# EAGLE library part 4052 (library jhbruhn-ic)
8-channel ANALOG MULTIPLEXER
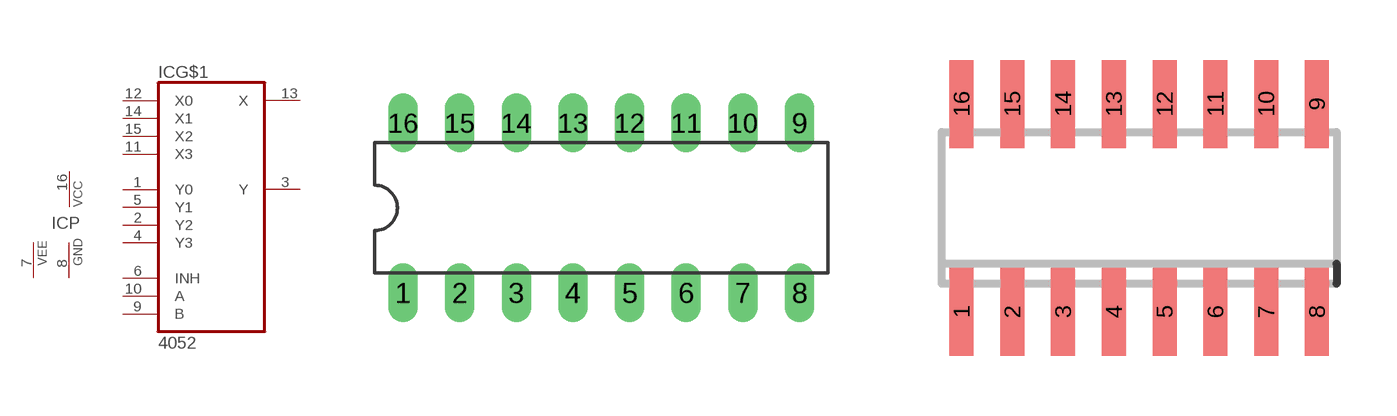
[diagram p2: symbol with the pads of DIL16; footprints DIL16, SOIC16N]

Designator prefix IC; gates P=PWR+VEE G$1=4052

## 4052N  [DIL16]
1  G$1:Y0
2  G$1:Y2
3  G$1:Y
4  G$1:Y3
5  G$1:Y1
6  G$1:INH  in
7  P:VEE  pwr
8  P:GND  pwr
9  G$1:B  in
10  G$1:A  in
11  G$1:X3
12  G$1:X0
13  G$1:X
14  G$1:X1
15  G$1:X2
16  P:VCC  pwr

## 4052D  [SOIC16N]
Pads as for DIL16

## Footprint DIL16 (pad centres in mm)
Dual In Line Package
drill 0.813 long: 1 -8.89,-3.81; 2 -6.35,-3.81; 3 -3.81,-3.81; 4 -1.27,-3.81; 5 1.27,-3.81; 6 3.81,-3.81; 7 6.35,-3.81; 8 8.89,-3.81; 9 8.89,3.81; 10 6.35,3.81; 11 3.81,3.81; 12 1.27,3.81; 13 -1.27,3.81; 14 -3.81,3.81; 15 -6.35,3.81; 16 -8.89,3.81

## Footprint SOIC16N (pad centres in mm)
SMALL OUTLINE INTEGRATED CIRCUIT
smd 0.6 x 2.2: 1 -4.445,-2.6; 2 -3.175,-2.6; 3 -1.905,-2.6; 4 -0.635,-2.6; 5 0.635,-2.6; 6 1.905,-2.6; 7 3.175,-2.6; 8 4.445,-2.6; 9 4.445,2.6; 10 3.175,2.6; 11 1.905,2.6; 12 0.635,2.6; 13 -0.635,2.6; 14 -1.905,2.6; 15 -3.175,2.6; 16 -4.445,2.6